# EAGLE library part EMIF06-MSD02N16 (library other_ic)
6-Line EMI filter&ESD for SD card uQFN16 STMicroelectronics EMIF06-MSD02N16, EMI Filter & ESD Protector Source: Datasheet <http://www.st.com/content/ccc/resource/technical/document/datasheet/a7/86/d3/98/2c/7f/4b/d2/CD00217829.pdf/files/CD00217829.pdf/jcr:content/translations/en.CD00217829.pdf>
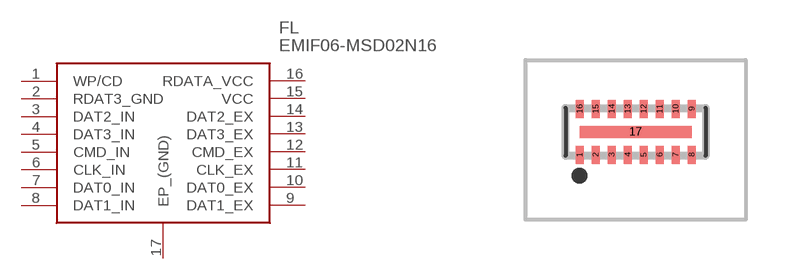
[diagram p2: symbol with the pads of EMIF06MSD02N16; footprint EMIF06MSD02N16]

Designator prefix FL

## EMIF06-MSD02N16 (DESCRIPTION: 6-Line EMI filter&ESD for SD card uQFN16 STMicroelectronics EMIF06-MSD02N16, EMI Filter & ESD Protector; HEIGHT: 0mm; MANUFACTURER_NAME: STMicroelectronics; MANUFACTURER_PART_NUMBER: EMIF06-MSD02N16; MOUSER_PART_NUMBER: 511-EMIF06-MSD02N16; MOUSER_PRICE-STOCK: https://www.mouser.com/Search/Refine.aspx?Keyword=511-EMIF06-MSD02N16; RS_PART_NUMBER: 9172716P; RS_PRICE-STOCK: http://uk.rs-online.com/web/p/products/9172716P)  [EMIF06MSD02N16]
1  WP/CD
2  RDAT3_GND
3  DAT2_IN
4  DAT3_IN
5  CMD_IN
6  CLK_IN
7  DAT0_IN
8  DAT1_IN
9  DAT1_EX
10  DAT0_EX
11  CLK_EX
12  CMD_EX
13  DAT3_EX
14  DAT2_EX
15  VCC
16  RDATA_VCC
17  EP_(GND)

## Footprint EMIF06MSD02N16 (pad centres in mm)
Micro QFN 3.5x1.2 16L
smd 0.2 x 0.45: 1 -1.4,-0.375; 2 -1,-0.375; 3 -0.6,-0.375; 4 -0.2,-0.375; 5 0.2,-0.375; 6 0.6,-0.375; 7 1,-0.375; 8 1.4,-0.375; 9 1.4,0.775; 10 1,0.775; 11 0.6,0.775; 12 0.2,0.775; 13 -0.2,0.775; 14 -0.6,0.775; 15 -1,0.775; 16 -1.4,0.775
smd 2.8 x 0.3: 17 0,0.2